# Altium schematic symbol library MAX485CSA.SchLib: 1 symbol
Pins are listed as number, name and electrical type; pins without a type are passive.

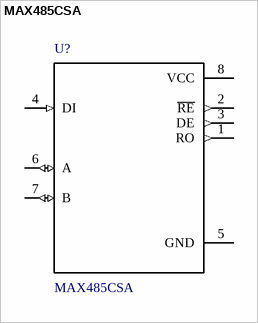
[diagram p0: symbol MAX485CSA]

## MAX485CSA
designator U?
1/1 Transceiver Half RS422, RS485 8-SOIC; MF: Maxim Integrated; MP: MAX485CSA; Package: SOIC-8 Maxim Integrated; Availability: Unavailable; Price: None; SnapEDA_Link: https://www.snapeda.com/parts/MAX485CSA/Maxim%20Integrated/view-part/1413252/?ref=snap; Value: *
footprint *SOIC127P600X175-8N
pins: 1 RO (out), 2 ~{RE} (out), 3 DE (out), 4 DI (in), 5 GND (power), 6 A (io), 7 B (io), 8 VCC (power)